# Altium integrated library Inductors.IntLib: 7 symbols
Pins are listed as number, name and electrical type; pins without a type are passive.

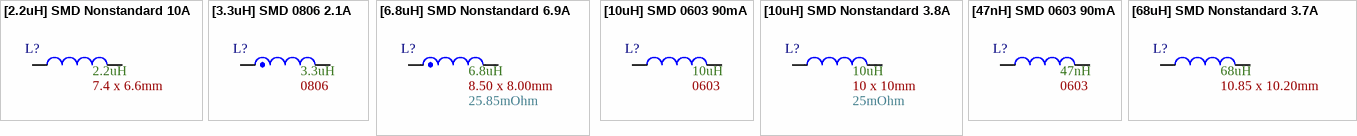
[diagram p0: symbols [2.2uH] SMD Nonstandard 10A to [68uH] SMD Nonstandard 3.7A]

## [2.2uH] SMD Nonstandard 10A
designator L?  Package: 7.4 x 6.6mm  Inductance: 2.2uH
ECS-MPIL0630-2R2MC; Supplier 1: DigiKey; Supplier Part Number 1: XC2402CT-ND
footprint [Inductor] SMD 7.4 X 6.6 X 3 MM
pins: 1, 2

## [3.3uH] SMD 0806 2.1A
designator L?  Package: 0806  Inductance: 3.3uH
AOTA-B201610S3R3-101-T; Supplier 1: DigiKey; Supplier Part Number 1: 535-AOTA-B201610S3R3-101-TCT-ND
footprint [Inductor] SMD 0806
pins: 1, 2

## [6.8uH] SMD Nonstandard 6.9A
designator L?  DC Resistance: 25.85mOhm  Package: 8.50 x 8.00mm  Inductance: 6.8uH
ETQ-P4M6R8KVK; Supplier 1: DigiKey; Supplier Part Number 1: P19775CT-ND
footprint [6.8uH] SMD Nonstandard 6.9A
pins: 1, 2

## [10uH] SMD 0603 90mA
designator L?  Package: 0603  Inductance: 10uH
BSCY00160808100MCP; Supplier 1: DigiKey; Supplier Part Number 1: 553-BSCY00160808100MCPCT-ND
footprint [Inductor] SMD 0603
pins: 1, 2

## [10uH] SMD Nonstandard 3.8A
designator L?  DC Resistance: 25mOhm  Package: 10 x 10mm  Inductance: 10uH
SRU1038-100Y; Supplier 1: DigiKey; Supplier Part Number 1: SRU1038-100YCT-ND
footprint [10uH] SMD Nonstandard 3.8A (SRU1038-100Y)
pins: 1, 2

## [47nH] SMD 0603 90mA
designator L?  Package: 0603  Inductance: 47nH
AIMC-0603-47NJ-T; Supplier 1: DigiKey; Supplier Part Number 1: 535-11541-6-ND
footprint [Inductor] SMD 0603
pins: 1, 2

## [68uH] SMD Nonstandard 3.7A
designator L?  Package: 10.85 x 10.20mm  Inductance: 68uH
VSHB1060T-680MC; Supplier 1: DigiKey; Supplier Part Number 1: 4044-VSHB1060T-680MCCT-ND
footprint [68uH] SMD Nonstandard 3.7A (VSHB1060T-680MC)
pins: 1, 2